# EAGLE library part SD_CARD_READER (library UBCSolar)
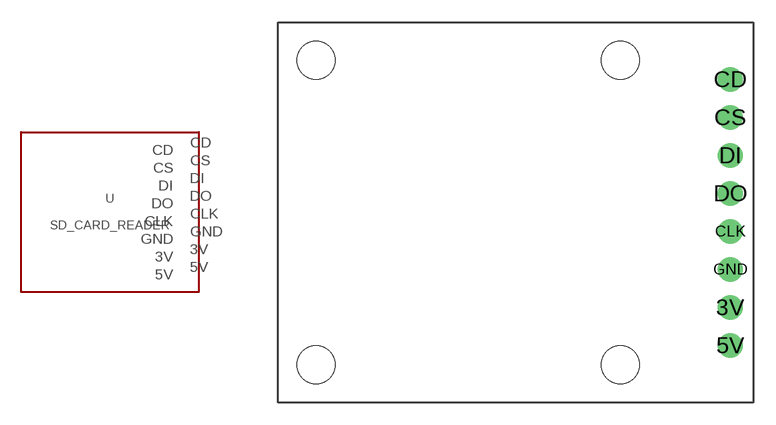
[diagram p18: symbol with the pads of SD_CARD_READER; footprint SD_CARD_READER]

Designator prefix -

## SD_CARD_READER  [SD_CARD_READER]
3V  3V
5V  5V
CD  CD
CLK  CLK
CS  CS
DI  DI
DO  DO
GND  GND

## Footprint SD_CARD_READER (pad centres in mm)
Adafruit MicroSD card breakout board+ https://www.adafruit.com/product/254
drill 1.1: 3V 0,-6.35; 5V 0,-8.89; CD 0,8.89; CLK 0,-1.27; CS 0,6.35; DI 0,3.81; DO 0,1.27; GND 0,-3.81
hole 2.54 at -27.686,10.16
hole 2.54 at -7.366,10.16
hole 2.54 at -27.686,-10.16
hole 2.54 at -7.366,-10.16